# Altium footprint library IC_Texas_Instruments_SN74LVC4245ADWR_eec_0.PcbLib: 1 footprints
Each footprint in its own frame and in the unit in brackets; x right, y up, seen from the top. Pads: shape width x height; smd on the part's side, far side on the other; paste and mask are expansions set on the pad; w line width, h text height; cw(c..) or ccw(c..) is an arc to the next point about the centre after c.
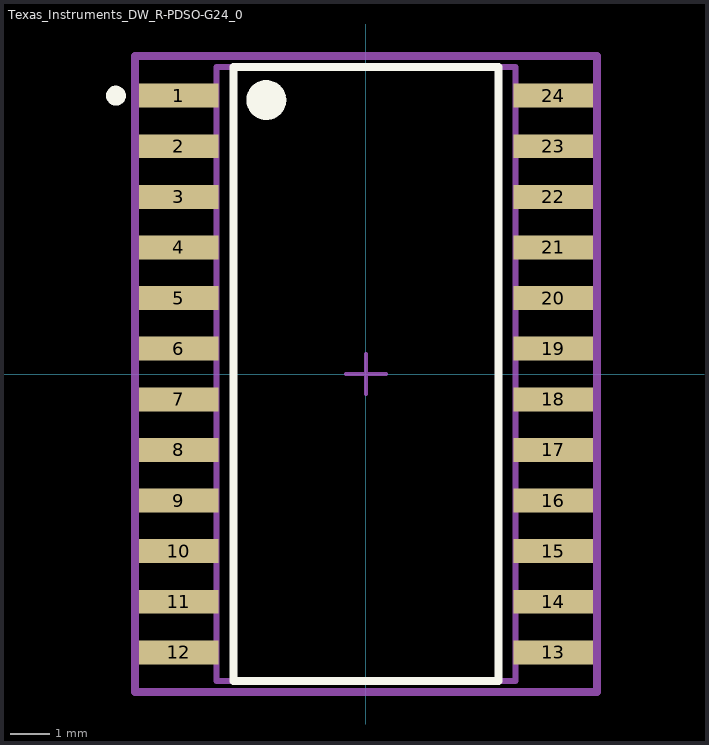
[diagram p0: the footprint, top view; thin cyan lines are the x and y axes]

## Texas_Instruments_DW_R-PDSO-G24_0 [mm]
pads (24):
  rect 2x0.6 smd paste-1000 mask+0: 1(-4.7,6.985) 2(-4.7,5.715) 3(-4.7,4.445) 4(-4.7,3.175) 5(-4.7,1.905) 6(-4.7,0.635) 7(-4.7,-0.635) 8(-4.7,-1.905) 9(-4.7,-3.175) 10(-4.7,-4.445) 11(-4.7,-5.715) 12(-4.7,-6.985) 13(4.7,-6.985) 14(4.7,-5.715) 15(4.7,-4.445) 16(4.7,-3.175) 17(4.7,-1.905) 18(4.7,-0.635) 19(4.7,0.635) 20(4.7,1.905) 21(4.7,3.175) 22(4.7,4.445) 23(4.7,5.715) 24(4.7,6.985)
Top Overlay:
  circle w0.5: c-2.5,6.875 r0.25
  circle w0.25: c-6.275,6.985 r0.125
  lines w0.2: -3.325,-7.7 3.325,-7.7 3.325,7.7 -3.325,7.7 -3.325,-7.7
Top Paste:
  rectangle: 3.725,-7.26 5.675,-6.71
  rectangle: 3.725,-5.99 5.675,-5.44
  rectangle: 3.725,-4.72 5.675,-4.17
  rectangle: 3.725,-3.45 5.675,-2.9
  rectangle: 3.725,-2.18 5.675,-1.63
  rectangle: 3.725,-0.91 5.675,-0.36
  rectangle: 3.725,0.36 5.675,0.91
  rectangle: 3.725,1.63 5.675,2.18
  rectangle: 3.725,2.9 5.675,3.45
  rectangle: 3.725,4.17 5.675,4.72
  rectangle: 3.725,5.44 5.675,5.99
  rectangle: 3.725,6.71 5.675,7.26
  rectangle: -5.675,-7.26 -3.725,-6.71
  rectangle: -5.675,-5.99 -3.725,-5.44
  rectangle: -5.675,-4.72 -3.725,-4.17
  rectangle: -5.675,-3.45 -3.725,-2.9
  rectangle: -5.675,-2.18 -3.725,-1.63
  rectangle: -5.675,-0.91 -3.725,-0.36
  rectangle: -5.675,0.36 -3.725,0.91
  rectangle: -5.675,1.63 -3.725,2.18
  rectangle: -5.675,2.9 -3.725,3.45
  rectangle: -5.675,4.17 -3.725,4.72
  rectangle: -5.675,5.44 -3.725,5.99
  rectangle: -5.675,6.71 -3.725,7.26
Mechanical 10:
  lines w0.2: -5.8,-7.975 5.8,-7.975 5.8,7.975 -5.8,7.975 -5.8,-7.975
  text ".Designator" at 0,0 h1
Mechanical 12:
  lines w0.15: -3.75,-7.7 3.75,-7.7 3.75,7.7 -3.75,7.7 -3.75,-7.7
Mechanical 15:
  lines w0.1: -0.5,0 0.5,0 ; 0,-0.5 0,0.5
  lines w0.2: -5.8,-7.975 5.8,-7.975 5.8,7.975 -5.8,7.975 -5.8,-7.975
3D body "IC_Texas_Instruments_SN74LVC4245ADWR_eec.STEP": height 0.25, standoff 0, extent -5.8,-7.975 5.8,7.975